# EAGLE library part WE-RJ45_7497110616 (library Wurth_Signal & Communications_WE-RJ45_LAN)
WE-RJ45 LAN Transformer Characteristics RJ45 Connector with integrated transformer / common mode choke Power over Ethernet up to 50 Watt and speeds up to 10 Gbit/s Available in SMD, THT and THT with USB Compliant with standards: IEEE 802.3u, IEEE 802.3ab, IEEE 802.3af, IEEE 802.3at, IEEE 802.3an and upcoming IEE 802.3bt Applications Suitable for industrial temperatures from –40 °C up to +85 °C Compatible to Industrial Ethernet systems like EtherCAT or Profinet Compliant with most IC’s for Ethernet applications such as Microchip, Texas Instruments, Broadcom, Linear Technology Hubs, Routers, Switches, IP cameras, IoT applications <https://www.we-online.com/components/media/o35731v209%20Family-WE-RJ45LAN-7499xxxxxx.jpg> Details see: www.we-online.com/components/products/WE-LAN-RJ45 <www.we-online.com/catalog/WE-LAN-RJ45/?utm_source=eagle_model&utm_medium=description_link&utm_campaign=eisos_eagle> Updated by Ella Wu 2019-08-05 2019 (C) Wurth Elektronik
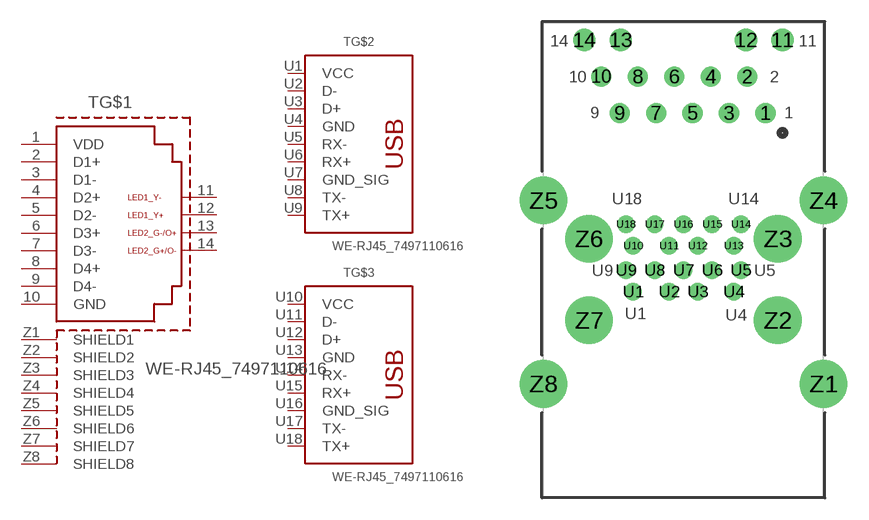
[diagram p85: symbol with the pads of 7497110616; footprint 7497110616]

Designator prefix T; gates G$1=7497110616 G$2=USB3.0 G$3=USB3.0

## WE-RJ45_7497110616 (DATA-RATE: 10/100/1000 Base-T; DATASHEET-URL: https://www.we-online.com/redexpert/spec/7497110616?ae; LED: yellow-green/orange; MOUNT: THT; PART-NUMBER: 7497110616; POE: non-PoE; PORTS: 1; USB: USB 3.0; VALUE: 7497110616)  [7497110616]
1  G$1:VDD  pas
2  G$1:D1+  pas
3  G$1:D1-  pas
4  G$1:D2+  pas
5  G$1:D2-  pas
6  G$1:D3+  pas
7  G$1:D3-  pas
8  G$1:D4+  pas
9  G$1:D4-  pas
10  G$1:GND  pas
11  G$1:LED1_Y-  pas
12  G$1:LED1_Y+  pas
13  G$1:LED2_G-/O+  pas
14  G$1:LED2_G+/O-  pas
U1  G$2:VCC  pas
U2  G$2:D-  pas
U3  G$2:D+  pas
U4  G$2:GND  pas
U5  G$2:RX-  pas
U6  G$2:RX+  pas
U7  G$2:GND_SIG  pas
U8  G$2:TX-  pas
U9  G$2:TX+  pas
U10  G$3:VCC  pas
U11  G$3:D-  pas
U12  G$3:D+  pas
U13  G$3:GND  pas
U14  G$3:RX-  pas
U15  G$3:RX+  pas
U16  G$3:GND_SIG  pas
U17  G$3:TX-  pas
U18  G$3:TX+  pas
Z1  G$1:SHIELD1  pas
Z2  G$1:SHIELD2  pas
Z3  G$1:SHIELD3  pas
Z4  G$1:SHIELD4  pas
Z5  G$1:SHIELD5  pas
Z6  G$1:SHIELD6  pas
Z7  G$1:SHIELD7  pas
Z8  G$1:SHIELD8  pas

## Footprint 7497110616 (pad centres in mm)
WE-RJ45 LAN Transformer 10/100/1000 Base-T
drill 0.89: 1 5.715,18.88; 2 4.445,21.42; 3 3.175,18.88; 4 1.905,21.42; 5 0.635,18.88; 6 -0.635,21.42; 7 -1.905,18.88; 8 -3.175,21.42; 9 -4.445,18.88; 10 -5.715,21.42
drill 1.03: 11 6.9,23.96; 12 4.36,23.96; 13 -4.36,23.96; 14 -6.9,23.96
drill 0.7: U1 -3.5,6.43; U2 -1,6.43; U3 1,6.43; U4 3.5,6.43; U5 4,7.93; U6 2,7.93; U7 0,7.93; U8 -2,7.93; U9 -4,7.93; U10 -3.5,9.63; U11 -1,9.63; U12 1,9.63; U13 3.5,9.63; U14 4,11.13; U15 2,11.13; U16 0,11.13; U17 -2,11.13; U18 -4,11.13
drill 2.3: Z1 9.75,0; Z2 6.57,4.43; Z3 6.57,10.11; Z4 9.75,12.78; Z5 -9.75,12.78; Z6 -6.57,10.11; Z7 -6.57,4.43; Z8 -9.75,0